# Altium schematic symbol library 5559IN19.Schlib: 1 symbol
Pins are listed as number, name and electrical type; pins without a type are passive.

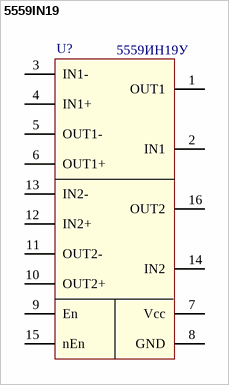
[diagram p0: symbol 5559IN19]

## 5559IN19
designator U?, comment 5559ИН19У
Назначение: Двухканальный LVDS приемопередатчик; Наименование: 5559ИН19У
footprint HO2.16-1B
pins: 1 OUT1, 2 IN1, 3 IN1-, 4 IN1+, 5 OUT1-, 6 OUT1+, 7 Vcc, 8 GND, 9 En, 10 OUT2+, 11 OUT2-, 12 IN2+, 13 IN2-, 14 IN2, 15 nEn, 16 OUT2